# EAGLE library part DCP021212D (library jack_libs)
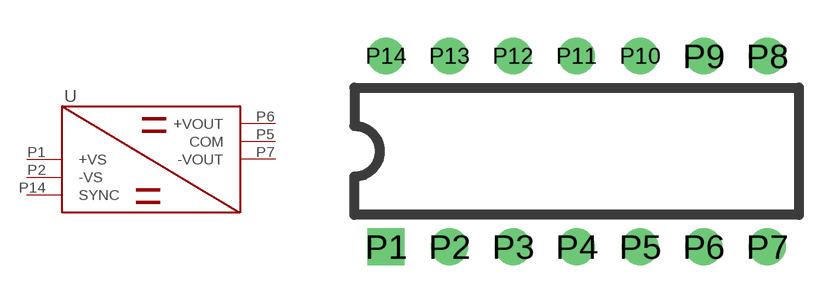
[diagram p7: symbol with the pads of DIP-14; footprint DIP-14]

Designator prefix U

## DCP021212D  [DIP-14]
P1  +VS
P2  -VS
P5  COM
P6  +VOUT
P7  -VOUT
P14  SYNC

## Footprint DIP-14 (pad centres in mm)
drill 0.965 square: P1 -7.62,-3.81
drill 0.965: P2 -5.08,-3.81; P3 -2.54,-3.81; P4 0,-3.81; P5 2.54,-3.81; P6 5.08,-3.81; P7 7.62,-3.81; P8 7.62,3.81; P9 5.08,3.81; P10 2.54,3.81; P11 0,3.81; P12 -2.54,3.81; P13 -5.08,3.81; P14 -7.62,3.81